# Altium footprint library H131CBWD.PcbLib: 1 footprints
Each footprint in its own frame and in the unit in brackets; x right, y up, seen from the top. Pads: shape width x height; smd on the part's side, far side on the other; paste and mask are expansions set on the pad; w line width, h text height; cw(c..) or ccw(c..) is an arc to the next point about the centre after c.
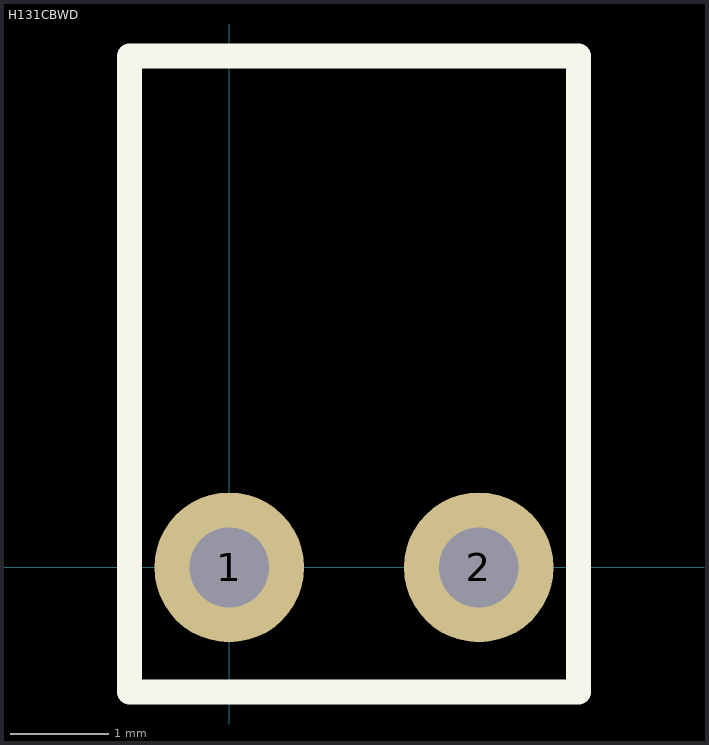
[diagram p0: the footprint, top view; thin cyan lines are the x and y axes]

## H131CBWD [mil]
pads (2):
  round 60 hole 32: 1(0,0) 2(100,0)
Top Overlay:
  lines w10: -40,-50 -40,-40 -40,205 -30,205 130,205 140,205 140,-50 -40,-50
3D body "BIVAR__INC_H131CBWD-180.step": height 310, standoff -157, extent -34.8,-30.51 135.2,293.49